# Altium footprint library Connector.PcbLib: 7 footprints
Each footprint in its own frame and in the unit in brackets; x right, y up, seen from the top. Pads: shape width x height; smd on the part's side, far side on the other; paste and mask are expansions set on the pad; w line width, h text height; cw(c..) or ccw(c..) is an arc to the next point about the centre after c.
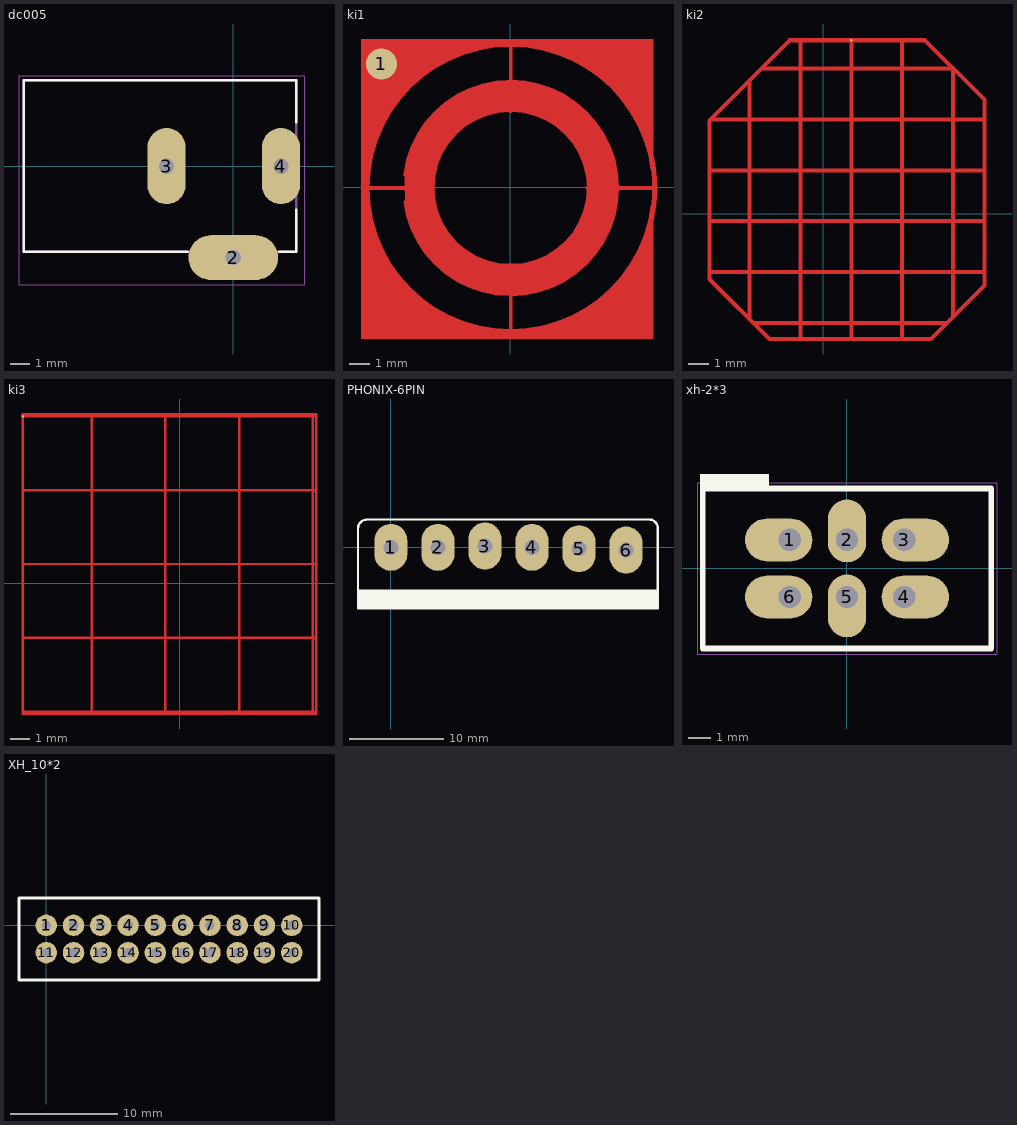
[diagram p0: the footprints below, top view; thin cyan lines are the x and y axes]

## dc005 [mm]
pads (3):
  oval 4.7x2.35 hole 0.8 square: 2(0,-4.8)
  oval 2x4 hole 0.8 square: 3(-3.5,0) 4(2.5,0)
Top Overlay:
  lines w0.127: -2.4,-4.5 -11,-4.5 -11,4.5 3.3,4.5 3.3,2.3 ; 2.4,-4.5 3.3,-4.5 3.3,-2.3
Mechanical 13:
  lines w0.127: -11,-4.5 3.3,-4.5 3.3,4.5 -11,4.5 -11,-4.5
Mechanical 15:
  lines w0.05: -11.25,-6.23 3.75,-6.23 3.75,4.75 -11.25,4.75 -11.25,-6.23
3D body "DC-005.STEP": height 11, standoff -4.4, extent -11.43,-4.827 2.87,4.573

## ki1 [mil]
pads (1):
  round 60 smd: 1(-248,238)
Top Layer:
  region: 276,34.09 271,33.67 266.59,59.62 258.13,88.97 246.44,117.2 231.67,143.94 213.99,168.85 193.63,191.63 170.85,211.99 145.94,229.67 119.2,244.44 90.97,256.13 61.62,264.59 31.5,269.71 1,271.42 -29.5,269.71 -59.62,264.59 -88.97,256.13 -117.2,244.44 -143.94,229.67 -168.85,211.99 -191.63,191.63 -211.99,168.85 -229.67,143.94 -244.44,117.2 -256.13,88.97 -264.59,59.62 -269.71,29.5 -271.42,-1 -269.71,-31.5 -264.59,-61.62 -256.13,-90.97 -244.44,-119.2 -229.67,-145.94 -211.99,-170.85 -191.63,-193.63 -168.85,-213.99 -143.94,-231.67 -117.2,-246.44 -88.97,-258.13 -59.62,-266.59 -29.5,-271.71 1,-273.42 31.5,-271.71 61.62,-266.59 90.97,-258.13 119.2,-246.44 145.94,-231.67 170.85,-213.99 193.63,-193.63 213.99,-170.85 231.67,-145.94 246.44,-119.2 258.13,-90.97 266.59,-61.62 271,-35.67 276,-36.09 276,-292 -287,-292 -287,286 276,286
  region: 28.18,205.45 54.89,200.13 80.69,191.38 105.11,179.33 127.76,164.2 148.24,146.24 166.2,125.76 181.33,103.11 193.38,78.69 202.13,52.89 207.45,26.18 209.23,-1 207.45,-28.18 202.13,-54.89 193.38,-80.69 181.33,-105.11 166.2,-127.76 148.24,-148.24 127.76,-166.2 105.11,-181.33 80.69,-193.38 54.89,-202.13 28.18,-207.45 14.06,-208.37 4.69,-208.37 -0.25,-209.15 -26.18,-207.45 -52.89,-202.13 -78.69,-193.38 -103.11,-181.33 -125.76,-166.2 -146.24,-148.24 -164.2,-127.76 -179.33,-105.11 -191.38,-80.69 -200.13,-54.89 -205.35,-28.65 -205.06,-26.82 -202.09,-23.65 -201.74,-23.65 -201.74,-6 -204.28,-6 -206.04,-1.51 -203.44,2.58 -203.44,20.23 -205.68,22.62 -205.45,26.18 -200.13,52.89 -191.38,78.69 -179.33,103.11 -164.2,125.76 -146.24,146.24 -125.76,164.2 -103.11,179.33 -78.69,191.38 -52.89,200.13 -26.18,205.45 -6.44,206.74 -4,206.74 -4,206.9 1,207.23 hole: 1,145.48 -21.92,143.68 -44.27,138.31 -65.5,129.52 -85.1,117.51 -102.58,102.58 -117.51,85.1 -129.52,65.5 -138.31,44.27 -143.68,21.92 -145.48,-1 -143.68,-23.92 -138.31,-46.27 -129.52,-67.5 -117.51,-87.1 -102.58,-104.58 -85.1,-119.51 -65.5,-131.52 -44.27,-140.31 -21.92,-145.68 1,-147.48 23.92,-145.68 46.27,-140.31 67.5,-131.52 87.1,-119.51 104.58,-104.58 119.51,-87.1 131.52,-67.5 140.31,-46.27 145.68,-23.92 147.48,-1 145.68,21.92 140.31,44.27 131.52,65.5 119.51,85.1 104.58,102.58 87.1,117.51 67.5,129.52 46.27,138.31 23.92,143.68
  lines w7: -276.72,-1 -200.94,-1 -173.77,-1 -147,-1 ; 1,-278.72 1,-202.94 1,-175.77 1,-149 ; 1,147 1,173.77 1,200.94 1,276.72 ; 149,-1 175.77,-1 202.94,-1 276,-1
  lines w10: -276.72,-1 ccw(c1,-1) 1,-278.72 ccw(c1,-1) 278.72,-1 ccw(c1,-1) -276.72,-1
  lines w55: -173.77,-1 cw(c1,-1) 175.77,-1 cw(c1,-1) 1,-175.77 cw(c1,-1) -173.77,-1

## ki2 [mil]
pads (1):
  round 5 smd: 1(55,340.67)
Top Layer:
  lines w8: -223.67,-115 316.67,-115 ; -223.67,-15 316.67,-15 ; -223.67,85 316.67,85 ; -221.88,185 316.67,185 ; -145,-207.88 -145,261.88 ; -137.88,-215 242.88,-215 ; -121.88,285 255.88,285 ; -45,-246.67 -45,340.67 ; 55,-246.67 55,340.67 ; 155,-246.67 155,340.67 ; 255,-202.88 255,285.88 ; -223.67,-129.21 -223.67,183.21 -66.21,340.67 200.21,340.67 316.67,224.21 316.67,-141.21 211.21,-246.67 -106.21,-246.67 -223.67,-129.21

## ki3 [mil]
pads (1):
  round 5 smd: 1(-318.65,339.02)
Top Layer:
  lines w5: -318.65,-260.98 278.35,-260.98 ; -318.65,-110.98 278.35,-110.98 ; -318.65,39.02 278.35,39.02 ; -318.65,189.02 278.35,189.02 ; -318.65,339.02 278.35,339.02 ; -178.65,-265.98 -178.65,344.02 ; -28.65,-265.98 -28.65,344.02 ; 121.35,-265.98 121.35,344.02 ; 271.35,-265.98 271.35,344.02 ; -318.65,-265.98 278.35,-265.98 278.35,344.02 -318.65,344.02 -318.65,-265.98

## PHONIX-6PIN [mm]
pads (6):
  oval 3.5x5 hole 1.6: 1(0,0) 2(5,0) 3(10,0.144) 4(15,0) 5(20,-0.144) 6(25,-0.288)
Top Overlay:
  rectangle: -3.5,-6.5 28.397,-4.5
  lines w0.254: 27.445,2.961 cw(c27.445,2.02) 28.386,2.02 28.386,-6.5 ; 27.483,2.961 -2.419,2.961 -2.539,2.961 ccw(c-2.539,2) -3.5,2 -3.5,-6.5 28.372,-6.5

## xh-2*3 [mm]
pads (6):
  oval 3x1.9 hole 1 copper offset -0.5,0 paste+0 mask+0.102: 1(-2.528,1.252) 6(-2.528,-1.288)
  oval 1.7x2.8 hole 1 copper offset 0,0.4: 2(0.012,1.252)
  oval 3x1.9 hole 1 copper offset 0.5,0 paste+0 mask+0.102: 3(2.552,1.252) 4(2.552,-1.288)
  oval 1.7x2.8 hole 1 copper offset 0,-0.4: 5(0.012,-1.288)
Top Overlay:
  rectangle: -6.541,3.542 -3.451,4.19
  lines w0.127: -6.418,-3.578 6.442,-3.578 ; -6.418,-3.578 -6.418,3.542 ; -6.418,-3.578 6.442,-3.578 ; -6.418,-3.578 -6.418,3.542 ; -6.418,3.542 6.442,3.542 ; 6.442,-3.578 6.442,3.542 ; 6.442,-3.578 6.442,3.542
  lines w0.254: -6.418,-3.578 6.442,-3.578 6.442,3.542 -6.418,3.542 -6.418,-3.578
Mechanical 16:
  lines w0.05: -6.668,-3.828 -6.668,3.792 6.692,3.792 6.692,-3.828 -6.668,-3.828

## XH_10*2 [mm]
pads (20):
  round 2 hole 0.9 paste+0 mask+0: 1(0,0) 2(2.54,0) 3(5.08,0) 4(7.62,0) 5(10.16,0) 6(12.7,0) 7(15.24,0) 8(17.78,0) 9(20.32,0) 10(22.86,0) 11(0,-2.54) 12(2.54,-2.54) 13(5.08,-2.54) 14(7.62,-2.54) 15(10.16,-2.54) 16(12.7,-2.54) 17(15.24,-2.54) 18(17.78,-2.54) 19(20.32,-2.54) 20(22.86,-2.54)
Top Overlay:
  lines w0.254: -2.54,-5.08 25.4,-5.08 25.4,2.54 -2.54,2.54 -2.54,-1.524 -2.54,-5.08